# Altium footprint library PCB - LEADED - TO - TO-92-3-FORMEDLEAD.PcbLib: 1 footprints
Each footprint in its own frame and in the unit in brackets; x right, y up, seen from the top. Pads: shape width x height; smd on the part's side, far side on the other; paste and mask are expansions set on the pad; w line width, h text height; cw(c..) or ccw(c..) is an arc to the next point about the centre after c.
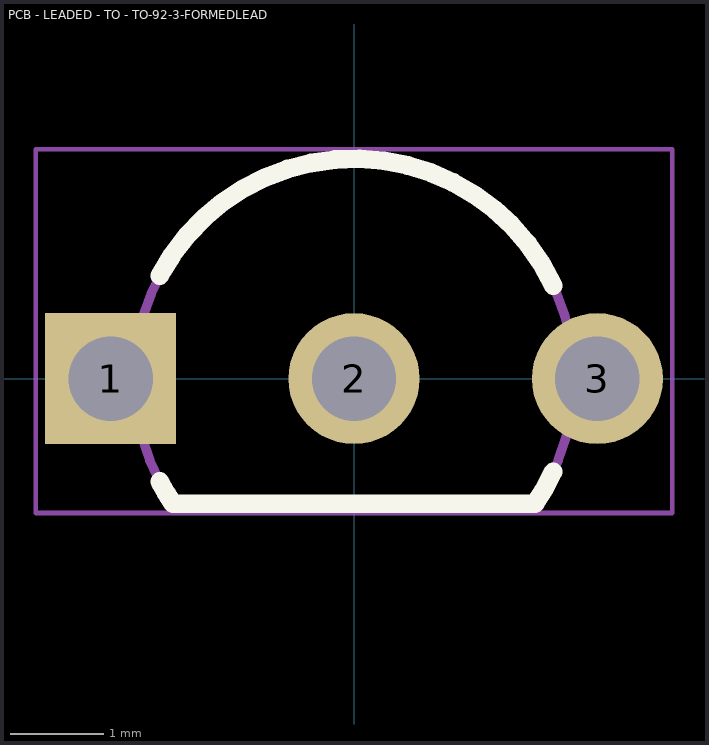
[diagram p0: the footprint, top view; thin cyan lines are the x and y axes]

## PCB - LEADED - TO - TO-92-3-FORMEDLEAD [mm]
height 8.923
pads (3):
  rect 1.4x1.4 hole 0.9: 1(-2.6,0)
  round 1.4 hole 0.9: 2(0,0) 3(2.6,0)
Top Overlay:
  lines w0.2: -2.077,-1.1 ccw(c0,0) -1.934,-1.335 1.934,-1.335 ccw(c0,0) 2.129,-0.994 ; -2.077,1.1 cw(c0,0) 2.129,0.994
Mechanical 13:
  lines w0.1: -1.934,-1.335 cw(c0,0) 1.934,-1.335 -1.934,-1.335
Mechanical 15:
  lines w0.05: -3.4,-1.435 3.4,-1.435 3.4,2.45 -3.4,2.45 -3.4,-1.435
  lines w0.1: -0.5,0 0.5,0 ; 0,-0.5 0,0.5
3D body: height 5.33, standoff 1.5, extent -2.359,-1.335 2.359,2.351
3D body "PCB3.step": height 4, standoff -8.7, extent -2.836,-0.222 2.836,0.223